# EAGLE library part ADAFRUIT_BLE_FRIEND_SPI (library LEDCyrWheel)
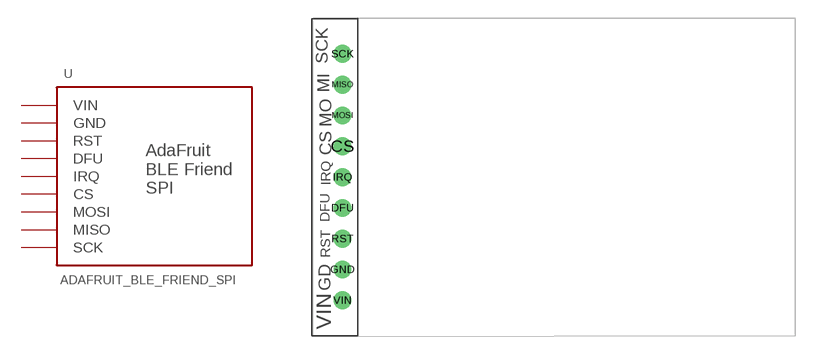
[diagram p2: symbol with the pads of ADAFRUIT_BLE_FRIEND_SPI; footprint ADAFRUIT_BLE_FRIEND_SPI]

Designator prefix -

## ADAFRUIT_BLE_FRIEND_SPI  [ADAFRUIT_BLE_FRIEND_SPI]
CS  CS
DFU  DFU
GND  GND  pwr
IRQ  IRQ
MISO  MISO
MOSI  MOSI
RST  RST
SCK  SCK
VIN  VIN  pwr

## Footprint ADAFRUIT_BLE_FRIEND_SPI (pad centres in mm)
drill 0.965: CS -13.97,2.921; DFU -13.97,-2.159; GND -13.97,-7.239; IRQ -13.97,0.381; MISO -13.97,8.001; MOSI -13.97,5.461; RST -13.97,-4.699; SCK -13.97,10.541; VIN -13.97,-9.779